# EAGLE library part 4050433_S (library ampex)
BIAS/PURC CARD
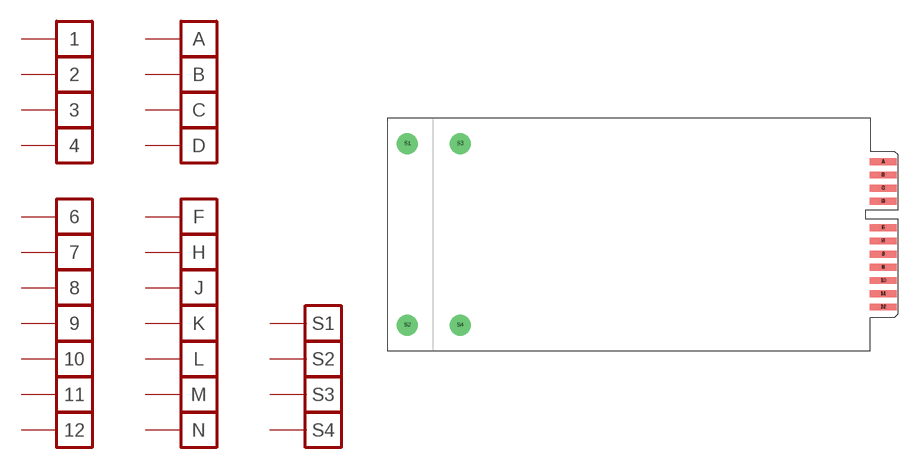
[diagram p23: symbol with the pads of 4050433; footprint 4050433]

Designator prefix PCB; gates 1=FPIN 2=FPIN 3=FPIN 4=FPIN 6=FPIN 7=FPIN 8=FPIN 9=FPIN 10=FPIN 11=FPIN 12=FPIN A=FPIN B=FPIN C=FPIN D=FPIN F=FPIN H=FPIN J=FPIN K=FPIN L=FPIN M=FPIN N=FPIN S1=FPIN S2=FPIN S3=FPIN S4=FPIN

## 4050433_S4050433  [4050433]
1  1:P  pas
2  2:P  pas
3  3:P  pas
4  4:P  pas
6  6:P  pas
7  7:P  pas
8  8:P  pas
9  9:P  pas
10  10:P  pas
11  11:P  pas
12  12:P  pas
A  A:P  pas
B  B:P  pas
C  C:P  pas
D  D:P  pas
F  F:P  pas
H  H:P  pas
J  J:P  pas
K  K:P  pas
L  L:P  pas
M  M:P  pas
N  N:P  pas
S1  S1:P  pas
S2  S2:P  pas
S3  S3:P  pas
S4  S4:P  pas

## Footprint 4050433 (pad centres in mm)
BIAS/PURC COMBO
smd 8.128 x 2.032 bottom: 1 3.88,21.793; 2 3.88,17.831; 3 3.88,13.868; 4 3.88,9.906; 6 3.88,1.981; 7 3.88,-1.981; 8 3.88,-5.944; 9 3.88,-9.906; 10 3.88,-13.868; 11 3.88,-17.831; 12 3.88,-21.793
smd 8.128 x 2.032: A 3.88,21.793; B 3.88,17.831; C 3.88,13.868; D 3.88,9.906; F 3.88,1.981; H 3.88,-1.981; J 3.88,-5.944; K 3.88,-9.906; L 3.88,-13.868; M 3.88,-17.831; N 3.88,-21.793
drill 3.048 pad 6.35: S1 -138.932,27.241; S2 -138.932,-27.241; S3 -123.082,27.241; S4 -123.082,-27.241